# Altium schematic symbol library Decawave.SchLib: 1 symbol
Pins are listed as number, name and electrical type; pins without a type are passive.

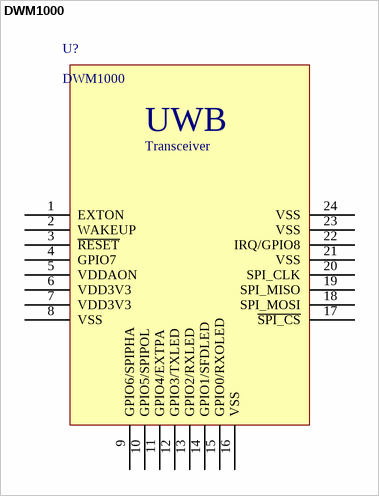
[diagram p0: symbol DWM1000]

## DWM1000
designator U?
UWB transceiver
footprint DWM1000 (UWB transceiver)
pins: 1 EXTON, 2 WAKEUP, 3 ~{RESET}, 4 GPIO7, 5 VDDAON, 6 VDD3V3, 7 VDD3V3, 8 VSS, 9 GPIO6/SPIPHA, 10 GPIO5/SPIPOL, 11 GPIO4/EXTPA, 12 GPIO3/TXLED, 13 GPIO2/RXLED, 14 GPIO1/SFDLED, 15 GPIO0/RXOLED, 16 VSS, 17 ~{SPI_CS}, 18 SPI_MOSI, 19 SPI_MISO, 20 SPI_CLK, 21 VSS, 22 IRQ/GPIO8, 23 VSS, 24 VSS
text: UWB; Transceiver